# EAGLE library part RCB128RFA1 (library C3-Modules)
Atmel ZigBee Development Module
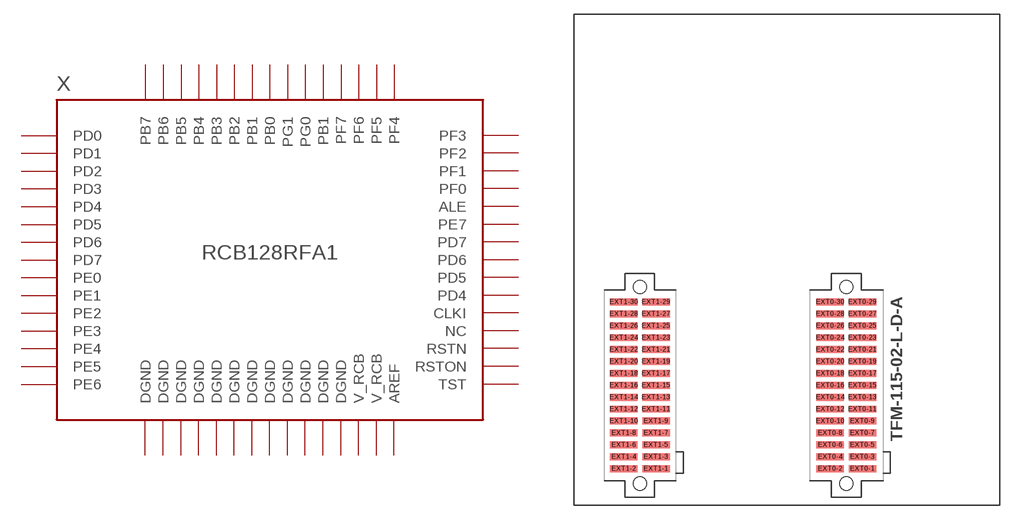
[diagram p1: symbol with the pads of RCB; footprint RCB]

Designator prefix X

## RCB128RFA1  [RCB]
EXT0-1  PG0
EXT0-2  PG1
EXT0-3  RSTN
EXT0-4  V_RCB  pwr
EXT0-5  DGND  pas
EXT0-6  NC  nc
EXT0-7  CLKI  pas
EXT0-8  DGND  pas
EXT0-9  PD0
EXT0-10  PD1
EXT0-11  PD2
EXT0-12  PD3
EXT0-13  PD4
EXT0-14  PD5
EXT0-15  PD6
EXT0-16  PD7
EXT0-17  PE4
EXT0-18  PE5
EXT0-19  DGND  pas
EXT0-20  DGND  pas
EXT0-21  DGND  pas
EXT0-22  DGND  pas
EXT0-23  DGND  pas
EXT0-24  DGND  pas
EXT0-25  PD4
EXT0-26  PD5
EXT0-27  PD6
EXT0-28  PD7
EXT0-29  DGND  pas
EXT0-30  ALE  pas
EXT1-1  PB1
EXT1-2  DGND  pas
EXT1-3  PE7
EXT1-4  PE6
EXT1-5  TST  pas
EXT1-6  RSTON  pas
EXT1-7  PE3
EXT1-8  PE2
EXT1-9  PE1
EXT1-10  PE0
EXT1-11  DGND  pas
EXT1-12  AREF  pas
EXT1-13  PF0
EXT1-14  PF1
EXT1-15  PF2
EXT1-16  PF3
EXT1-17  PF4
EXT1-18  PF5
EXT1-19  PF6
EXT1-20  PF7
EXT1-21  V_RCB  pwr
EXT1-22  DGND  pas
EXT1-23  PB0
EXT1-24  PB1
EXT1-25  PB2
EXT1-26  PB3
EXT1-27  PB4
EXT1-28  PB5
EXT1-29  PB6
EXT1-30  PB7

## Footprint RCB (pad centres in mm)
Using SAMTEC TFM-115-XX(02 nom.)-L-D-LC spaced 22mm o/c
smd 2.921 x 0.737: EXT0-1 11.714,-8.89; EXT0-2 8.286,-8.89; EXT0-3 11.714,-7.62; EXT0-4 8.286,-7.62; EXT0-5 11.714,-6.35; EXT0-6 8.286,-6.35; EXT0-7 11.714,-5.08; EXT0-8 8.286,-5.08; EXT0-9 11.714,-3.81; EXT0-10 8.286,-3.81; EXT0-11 11.714,-2.54; EXT0-12 8.286,-2.54; EXT0-13 11.714,-1.27; EXT0-14 8.286,-1.27; EXT0-15 11.714,0; EXT0-16 8.286,0; EXT0-17 11.714,1.27; EXT0-18 8.286,1.27; EXT0-19 11.714,2.54; EXT0-20 8.286,2.54; EXT0-21 11.714,3.81; EXT0-22 8.286,3.81; EXT0-23 11.714,5.08; EXT0-24 8.286,5.08; EXT0-25 11.714,6.35; EXT0-26 8.286,6.35; EXT0-27 11.714,7.62; EXT0-28 8.286,7.62; EXT0-29 11.714,8.89; EXT0-30 8.286,8.89; EXT1-1 -10.286,-8.89; EXT1-2 -13.714,-8.89; EXT1-3 -10.286,-7.62; EXT1-4 -13.714,-7.62; EXT1-5 -10.286,-6.35; EXT1-6 -13.714,-6.35; EXT1-7 -10.286,-5.08; EXT1-8 -13.714,-5.08; EXT1-9 -10.286,-3.81; EXT1-10 -13.714,-3.81; EXT1-11 -10.286,-2.54; EXT1-12 -13.714,-2.54; EXT1-13 -10.286,-1.27; EXT1-14 -13.714,-1.27; EXT1-15 -10.286,0; EXT1-16 -13.714,0; EXT1-17 -10.286,1.27; EXT1-18 -13.714,1.27; EXT1-19 -10.286,2.54; EXT1-20 -13.714,2.54; EXT1-21 -10.286,3.81; EXT1-22 -13.714,3.81; EXT1-23 -10.286,5.08; EXT1-24 -13.714,5.08; EXT1-25 -10.286,6.35; EXT1-26 -13.714,6.35; EXT1-27 -10.286,7.62; EXT1-28 -13.714,7.62; EXT1-29 -10.286,8.89; EXT1-30 -13.714,8.89
hole 1.42 at -12,10.48
hole 1.42 at -12,-10.48
hole 1.42 at 10,10.48
hole 1.42 at 10,-10.48